# Altium schematic symbol library Screen.SchLib: 1 symbol
Pins are listed as number, name and electrical type; pins without a type are passive.

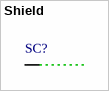
[diagram p0: symbol Shield]

## Shield
designator SC?  (value not drawn)
Screen; Value: *; Catalog: *; Catalog number: *; Price: *; URL: *
pins: 1